# Altium schematic symbol library EReference-Schematic.SchLib: 84 symbols (part 3 of 3)
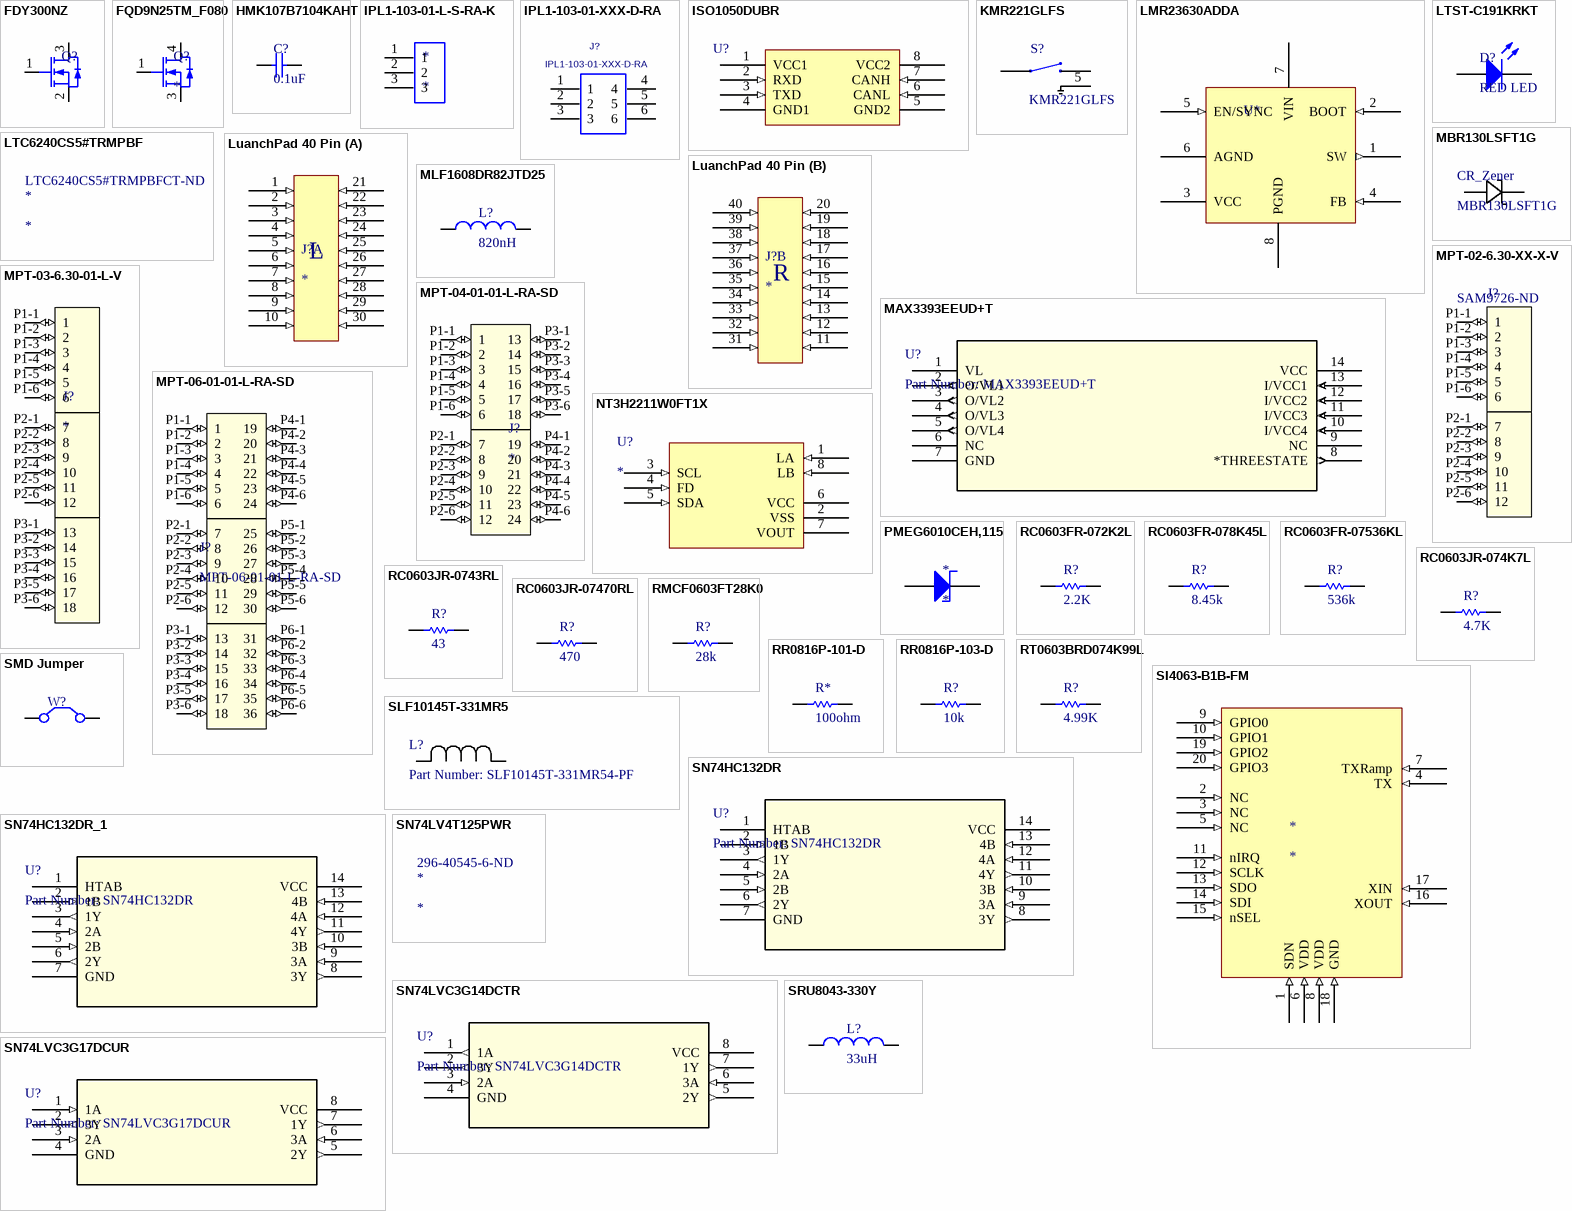
[diagram p4: symbols FDY300NZ to SRU8043-330Y]

## RMCF0603FT28K0
designator R?, comment 28k
RES SMD 28K OHM 1% 1/10W 0603; Manufacturer 1: Stackpole Electronics; Manufacturer Part Number 1: RMCF0603FT28K0; Resistance: 28kR; Power Rating: 100mW; Temperature Coefficient: 100ppm/°C; Supplier 1: Digi-Key; Stock 1: 126187; Pricing 1: 1=0.10000, 10=0.01700, 100=0.00680, 1000=0.00306, 2500=0.00266 (USD); RoHS: Yes; Mount: Surface Mount; Case/Package: 0603; Case Code (Metric): 1608; Case Code (Imperial): 0603; Contact Plating: Tin,Matte; Min Operating Temperature: -55°C; Max Operating Temperature: 155°C; Tolerance: 1%; Packaging: Tape and Reel; Composition: Thick Film; Number of Terminations: 2; Max Power Dissipation: 100mW; Features: Automotive AEC-Q200; Length: 0.061inch; Height: 0.022inch; Width: 0.031inch; Radiation Hardening: No; Lead Free: Lead Free; ComponentLink1URL: https://www.seielect.com/Catalog/SEI-RMCF_RMCP.pdf?src-supplier=Digi-Key; ComponentLink1Description: https://www.seielect.com/Catalog/SEI-RMCF_RMCP.pdf?src-supplier=Digi-Key; ComponentLink2URL: https://www.seielect.com/catalog/SEI-Packaging.pdf?src-supplier=Digi-Key; ComponentLink2Description: https://www.seielect.com/catalog/SEI-Packaging.pdf?src-supplier=Digi-Key; ComponentLink3URL: http://components.arrow.com/part/dataview/50505137S2698N1174?src-supplier=Arrow; ComponentLink3Description: http://components.arrow.com/part/dataview/50505137S2698N1174?src-supplier=Arrow; ComponentLink4URL: https://www.seielect.com/catalog/SEI-RMCF_RMCP.pdf?src-supplier=Avnet; ComponentLink4Description: https://www.seielect.com/catalog/SEI-RMCF_RMCP.pdf?src-supplier=Avnet; ComponentLink5URL: http://www.seielect.com/Catalog/SEI-RMC.pdf?src-supplier=Future+Electronics; ComponentLink5Description: http://www.seielect.com/Catalog/SEI-RMC.pdf?src-supplier=Future+Electronics
footprint CAPC1608X05L (Chip Capacitor, 2-Leads, Body 1.60x0.80mm, IPC High Density)
pins: 1, 2

## RR0816P-101-D
designator R*, comment 100ohm
RES SMD 100 OHM 0.5% 1/16W 0816; Manufacturer: Susumu; Manufacturer Part Number: RR0816P-101-D; Resistance: 100R; Power Rating: 63mW; Voltage Rating: 75V; Temperature Coefficient: 25ppm/°C; Supplier 1: Digi-Key; RoHS: Yes; Stock 1: 167672; Pricing 1: 1 = 0.11000, 10 = 0.09800, 100 = 0.03760, 1000 = 0.01654, 2500 = 0.01428 (USD); Case/Package: 0603; Number of Pins: 2; Weight: 7.1E-05oz; Case Code (Metric): 1608; Case Code (Imperial): 0603; Min Operating Temperature: -55°C; Max Operating Temperature: 125°C; Package Quantity: 1; Tolerance: 0.5%; Packaging: Cut Tape; Composition: Thin Film; Number of Terminations: 2; Termination: SMD/SMT; Max Power Dissipation: 63mW; Voltage Rating (DC): 75V; Length: 1.6mm; Height: 0.4mm; Width: 0.031inch; Depth: 0.8mm; REACH SVHC: Unknown; Lead Free: Lead Free; ComponentLink1URL: http://www.susumu.co.jp/common/pdf/n_catalog_partition05_en.pdf; ComponentLink1Description: http://www.susumu.co.jp/common/pdf/n_catalog_partition05_en.pdf; ComponentLink2URL: http://documents.rs-components.com/techlib://itc_doclist_GB.htm?stockno=3915191; ComponentLink2Description: http://documents.rs-components.com/techlib://itc_doclist_GB.htm?stockno=3915191
footprint CAPC1608X05L (Chip Capacitor, 2-Leads, Body 1.60x0.80mm, IPC High Density)
simulation model Model Name (Model Description)
pins: 1, 2

## RR0816P-103-D
designator R?, comment 10k
RES SMD 10K OHM 0.5% 1/16W 0816; Manufacturer: Susumu; Manufacturer Part Number: RR0816P-103-D; Resistance: 10kR; Power Rating: 63mW; Voltage Rating: 75V; Temperature Coefficient: 25ppm/°C; Supplier 1: Digi-Key; Stock 1: 1031099; Pricing 1: 1=0.11, 10=0.098, 100=0.0376, 1000=0.01654, 2500=0.01428 (USD); Case/Package: 0603; Number of Pins: 2; Weight: 7.1E-05oz; Case Code (Imperial): 0603; Case Code (Metric): 1608; Min Operating Temperature: -55°C; Max Operating Temperature: 125°C; Packaging: Tape and Reel; Tolerance: 0.5%; Package Quantity: 1; Termination: SMD/SMT; Composition: Thin Film; Number of Terminations: 2; Max Power Dissipation: 63mW; Voltage Rating (DC): 75V; Length: 1.6mm; Height: 0.4mm; Width: 0.8mm; Depth: 0.8mm; REACH SVHC: Unknown; Lead Free: Lead Free; ComponentLink1URL: http://documents.rs-components.com/techlib://itc_doclist_GB.htm?stockno=3915321; ComponentLink1Description: http://documents.rs-components.com/techlib://itc_doclist_GB.htm?stockno=3915321; ComponentLink2URL: http://www.susumu.co.jp/common/pdf/n_catalog_partition05_en.pdf; ComponentLink2Description: http://www.susumu.co.jp/common/pdf/n_catalog_partition05_en.pdf
simulation model Model Name (Model Description)
signal-integrity model Model Name (Model Description)
footprint CAPC1608X05L (Chip Capacitor, 2-Leads, Body 1.60x0.80mm, IPC High Density)
pins: 1, 2

## RT0603BRD074K99L
designator R?, comment 4.99K
RES SMD 4.99K OHM 0.1% 1/10W; Manufacturer 1: Yageo; Manufacturer Part Number 1: RT0603BRD074K99L; Resistance: 4.99kR; Temperature Coefficient: 25ppm/°C; Power Rating: 100mW; Voltage Rating: 75V; Voltage Rating (DC): 50V; Supplier 1: Digi-Key; Stock 1: 53078; Pricing 1: 1=0.37000, 10=0.31200, 100=0.12190, 1000=0.05103, 2500=0.04678 (USD); RoHS: Yes; Case/Package: 0603; Weight: 7.1E-05oz; Contact Plating: Tin,Matte; Case Code (Metric): 1608; Case Code (Imperial): 0603; Min Operating Temperature: -55°C; Max Operating Temperature: 125°C; Tolerance: 0.1%; Composition: Thin Film; Package Quantity: 5000; Packaging: Tape and Reel; Number of Terminations: 2; Termination: SMD/SMT; Military Standard: Not; Max Power Dissipation: 100mW; Features: Moisture Resistant; Length: 1.6mm; Height: 0.022inch; Width: 0.031inch; Depth: 0.8mm; Radiation Hardening: No; Lead Free: Lead Free; ComponentLink1URL: https://datasheet.ciiva.com/2585/pyu-rt-1-to-0-05-rohs-l-4-2585984.pdf?src-supplier=Digi-Key; ComponentLink1Description: https://datasheet.ciiva.com/2585/pyu-rt-1-to-0-05-rohs-l-4-2585984.pdf?src-supplier=Digi-Key; ComponentLink2URL: https://datasheet.ciiva.com/46635/pyu-rt-1-to-0-05-rohs-l-5-46635030.pdf?src-supplier=Digi-Key; ComponentLink2Description: https://datasheet.ciiva.com/46635/pyu-rt-1-to-0-05-rohs-l-5-46635030.pdf?src-supplier=Digi-Key; ComponentLink3URL: https://datasheet.ciiva.com/12836/pyu-rt-1-to-0-05-rohs-l-4-12836462.pdf?src-supplier=Mouser; ComponentLink3Description: https://datasheet.ciiva.com/12836/pyu-rt-1-to-0-05-rohs-l-4-12836462.pdf?src-supplier=Mouser
footprint CAPC1608X05L (Chip Capacitor, 2-Leads, Body 1.60x0.80mm, IPC High Density)
pins: 1, 2

## SI4063-B1B-FM
designator *
+20DBM SI4063 EZRADIOPRO. TRAN; Manufacturer 1: Silicon Labs; Manufacturer Part Number 1: SI4063-B1B-FM; Frequency: 142MHz; Operating Supply Voltage: 3.3V; Current - Transmitting: 85mA; Data Rate: 1Mbps; Max Frequency: 1.05GHz; Min Supply Voltage: 1.8V; Max Supply Voltage: 3.6V; Supplier 1: Digi-Key; Stock 1: 447; Pricing 1: 1=2.21000, 25=2.12720, 100=2.04530, 1000=1.87582 (USD); RoHS: Yes; Mount: Surface Mount; Case/Package: QFN; Number of Pins: 20; Min Operating Temperature: -40°C; Max Operating Temperature: 85°C; Package Quantity: 75; Packaging: Rail/Tube; Length: 4mm; Height: 0.85mm; Width: 4mm; REACH SVHC: Unknown; ComponentLink1URL: https://datasheet.ciiva.com/8145/si4063-60-8145942.pdf?src-supplier=Avnet; ComponentLink1Description: https://datasheet.ciiva.com/8145/si4063-60-8145942.pdf?src-supplier=Avnet; ComponentLink2URL: https://datasheet.ciiva.com/14939/wirelessselectorguide-14939879.pdf?src-supplier=Digi-Key; ComponentLink2Description: https://datasheet.ciiva.com/14939/wirelessselectorguide-14939879.pdf?src-supplier=Digi-Key; Supplier 2: Digi-Key; Manufacturer 2: Silicon Labs; Manufacturer Part Number 2: SI4063-B1B-FM; Stock 2: 447; Pricing 2: 1=2.21000, 25=2.12720, 100=2.04530, 1000=1.87582 (USD)
footprint QFN50P400X400X90_HS-21N (QFN, 20-Leads, Body 4.00x4.00mm, Pitch 0.50mm, Thermal Pad 2.60x2.60mm, IPC Medium Density); pin to pad 18>18+21
pins: 1 SDN (in), 2 NC (in), 3 NC (in), 4 TX (in), 5 NC (in), 6 VDD (in), 7 TXRamp (in), 8 VDD (in), 9 GPIO0 (in), 10 GPIO1 (in), 11 nIRQ (in), 12 SCLK (in), 13 SDO (in), 14 SDI (in), 15 nSEL (in), 16 XOUT (in), 17 XIN (in), 18 GND (in), 19 GPIO2 (in), 20 GPIO3 (in)

## SLF10145T-331MR5
designator L?, comment Part Number: SLF10145T-331MR54-PF
330uH inductor for 5v reg; Vendor: TDK; Built_By: EMA_UL_Team; Manufacturer_Part_Number: SLF10145T-331MR54-PF; Copyright: Copyright (C) 2018 Accelerated Designs. All rights reserved; Value: Value
footprint IND_10145
pins: 1, 2

## SMD Jumper
designator W?
SMD solder jumper
footprint SMD Jumper (To be used only as a jumper)
pins: 1 C1, 2 C2

## SN74HC132DR
designator U?, comment Part Number: SN74HC132DR
Schmitt Trigger; Vendor: Texas Instruments; Built_By: EMA_UL_Team; Manufacturer_Part_Number: SN74HC132DR; Manufacturer: Texas Instruments; Copyright: Copyright (C) 2018 Accelerated Designs. All rights reserved; RefDes: RefDes; Type: DEV; Value: Value
footprint D14
pins: 1 HTAB (power), 2 1B (in), 3 1Y (out), 4 2A (in), 5 2B (in), 6 2Y (out), 7 GND (power), 8 3Y (out), 9 3A (in), 10 3B (in), 11 4Y (out), 12 4A (in), 13 4B (in), 14 VCC (power)

## SN74HC132DR_1
designator U?, comment Part Number: SN74HC132DR
No Description Available; Vendor: Texas Instruments; Built_By: EMA_UL_Team; Manufacturer_Part_Number: SN74HC132DR; Manufacturer: Texas Instruments; Copyright: Copyright (C) 2018 Accelerated Designs. All rights reserved; RefDes: RefDes; Type: DEV; Value: Value
footprint D14
pins: 1 HTAB (power), 2 1B (in), 3 1Y (out), 4 2A (in), 5 2B (in), 6 2Y (out), 7 GND (power), 8 3Y (out), 9 3A (in), 10 3B (in), 11 4Y (out), 12 4A (in), 13 4B (in), 14 VCC (power)

## SN74LV4T125PWR
designator *  Supplier Part Number 1: 296-40545-6-ND
level shifter Automotive 14-Pin TSSOP T/R; Manufacturer 1: Texas Instruments; Manufacturer Part Number 1: SN74LV4T125PWR; Number of Elements: 4; Number of Bits per Element: 1; High Level Output Current: 16mA; Quiescent Current: 2uA; Logic Function: Buffer,Inverting,Translator; Propagation Delay: 11ns; Min Supply Voltage: 1.6V; Max Supply Voltage: 5.5V; Supplier 1: Digi-Key; Stock 1: 13202; Pricing 1: 1=0.90000, 10=0.80200, 25=0.76120, 100=0.58460, 250=0.51664, 500=0.48946, 1000=0.38069 (USD); RoHS: Yes; Mount: Surface Mount; Case/Package: TSSOP; Number of Pins: 14; Min Operating Temperature: -40°C; Max Operating Temperature: 125°C; Packaging: Tape and Reel; Low Level Output Current: 16mA; Number of Inputs: 1; Package Quantity: 2000; Number of Bits: 4; Radiation Hardening: No; REACH SVHC: No SVHC; Lead Free: Lead Free; ComponentLink1URL: https://datasheet.ciiva.com/48438/sn74lv4t125-48438268.pdf?src-supplier=Avnet; ComponentLink1Description: https://datasheet.ciiva.com/48438/sn74lv4t125-48438268.pdf?src-supplier=Avnet
footprint PW0014A_N (SOP, 14-Leads, Body 5.1x4.5mm, Pitch 0.65mm, IPC Medium Density)

## SN74LVC3G14DCTR
designator U?, comment Part Number: SN74LVC3G14DCTR
No Description Available; Manufacturer: Texas Instruments; Built_By: EMA_UL_Team; Vendor: Texas Instruments; Manufacturer_Part_Number: SN74LVC3G14DCTR; Copyright: Copyright (C) 2018 Accelerated Designs. All rights reserved; RefDes: RefDes; Type: DEV; Value: Value
footprint DCT8
pins: 1 1A (out), 2 3Y (out), 3 2A (in), 4 GND (power), 5 2Y (out), 6 3A (in), 7 1Y (out), 8 VCC (power)

## SN74LVC3G17DCUR
designator U?, comment Part Number: SN74LVC3G17DCUR
Schmitt Triger Non Inverting; Vendor: Texas Instruments; Built_By: EMA_UL_Team; Manufacturer_Part_Number: SN74LVC3G17DCUR; Manufacturer: Texas Instruments; Copyright: Copyright (C) 2018 Accelerated Designs. All rights reserved; RefDes: RefDes; Type: DEV; Value: Value
footprint DCU8
pins: 1 1A (in), 2 3Y (out), 3 2A (in), 4 GND (power), 5 2Y (out), 6 3A (in), 7 1Y (out), 8 VCC (power)

## SRU8043-330Y
designator L?, comment 33uH
Fixed Inductors 33uH 30% SMD 8043; Manufacturer 1: Bourns; Manufacturer Part Number 1: SRU8043-330Y; Core Material: Ferrite; DC Resistance (DCR): 100mR; Max DC Current: 1.7A; Saturation Current: 1.4A; Shielding: Shielded; Self Resonant Frequency: 11MHz; Q Factor: 21; Test Frequency: 100kHz; Supplier 1: Digi-Key; Stock 1: 3183; Pricing 1: 1=0.97000, 10=0.89700, 100=0.64860, 500=0.49680 (USD); RoHS: Yes; Mount: Surface Mount; Case/Package: Nonstandard; Number of Pins: 2; Min Operating Temperature: -40°C; Max Operating Temperature: 125°C; Tolerance: 30%; Inductance: 33uH; Packaging: Tape and Reel; Package Quantity: 1000; Current Rating: 1.7A; Composition: Wirewound; Termination: SMD/SMT; DC Current: 1.7A; Military Standard: Not; Length: 0.315inch; Height: 0.169inch; Width: 0.315inch; Height - Seated (Max): 0.181inch; Depth: 8.3mm; ComponentLink1URL: https://datasheet.ciiva.com/4959/sru8043-34397-4959893.pdf?src-supplier=Mouser; ComponentLink1Description: https://datasheet.ciiva.com/4959/sru8043-34397-4959893.pdf?src-supplier=Mouser; ComponentLink2URL: https://datasheet.ciiva.com/6708/sru8043-6708554.pdf?src-supplier=Digi-Key; ComponentLink2Description: https://datasheet.ciiva.com/6708/sru8043-6708554.pdf?src-supplier=Digi-Key; ComponentLink3URL: https://datasheet.ciiva.com/48684/sru8043-48684874.pdf?src-supplier=Avnet; ComponentLink3Description: https://datasheet.ciiva.com/48684/sru8043-48684874.pdf?src-supplier=Avnet; ComponentLink4URL: https://datasheet.ciiva.com/41680/70887-41680748.pdf?src-supplier=Newark; ComponentLink4Description: https://datasheet.ciiva.com/41680/70887-41680748.pdf?src-supplier=Newark
footprint INDP8080X46L (Precision Wire Wound Inductor, 2-Leads, Body 8.00x8.00mm, IPC High Density)
pins: 1, 2

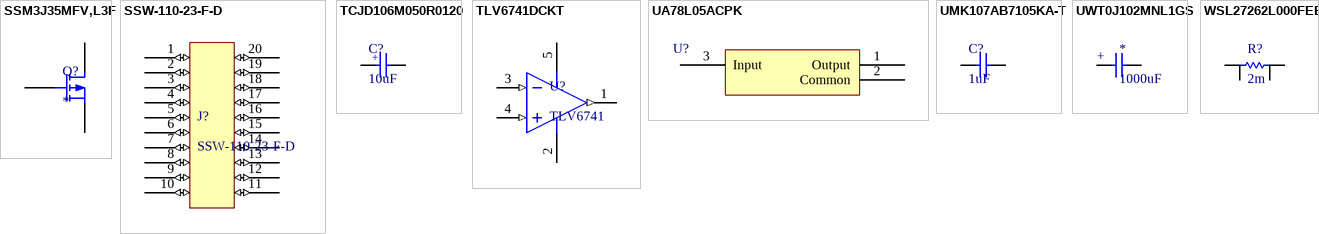
[diagram p2: symbols SSM3J35MFV,L3F to WSL27262L000FEB]

## SSM3J35MFV,L3F
designator Q?
MOSFET P-CH 20V 0.1A VESM; Manufacturer: Toshiba; Manufacturer Part Number: SSM3J35MFV,L3F; Continuous Drain Current (ID): 100mA; Rds On Max: 8R; Input Capacitance: 12.2pF; Max Power Dissipation: 150mW; Supplier 1: Digi-Key; Stock 1: 6222; Pricing 1: 1=0.26, 10=0.241, 100=0.1348, 500=0.07222, 1000=0.04912 (USD); Mount: Surface Mount; Case/Package: SOT-723; Packaging: Cut Tape; Drain to Source Voltage (Vdss): 20V
footprint SOTFL40P120X55-3N (SOTFL, 3-Leads, Body 1.20x1.20mm, Pitch 0.40mm, IPC Medium Density)
pins: 1 G, 2 S, 3 D

## SSW-110-23-F-D
designator J?
SSW - Samtec 2.54mm Dual Row Straight Socket Strip 8.5mm Profile; Number of Contacts: 20; Gender: Female; Mating Cycles: 100; Supplier 1: Digi-Key; Manufacturer 1: Samtec; Manufacturer Part Number 1: SSW-110-23-F-D; Stock 1: 137; Pricing 1: 1=2.57000, 10=2.33000, 100=1.99710, 500=1.66426, 1000=1.42650, 5000=1.26483 (USD); RoHS: Yes; Mount: Through Hole; Contact Plating: Gold; Color: Black; Contact Material: Bronze; Number of Rows: 2; Packaging: Bulk; Termination: Solder; Pitch: 2.54mm; Radiation Hardening: No; ComponentLink1URL: ftp://ftp.samtec.com/webfiles/PDF/SSQ_TH.PDF?src-supplier=Avnet; ComponentLink1Description: ftp://ftp.samtec.com/webfiles/PDF/SSQ_TH.PDF?src-supplier=Avnet
footprint SSW-110-XX-XXX-D
pins: 1 (io), 2 (io), 3 (io), 4 (io), 5 (io), 6 (io), 7 (io), 8 (io), 9 (io), 10 (io), 11 (io), 12 (io), 13 (io), 14 (io), 15 (io), 16 (io), 17 (io), 18 (io), 19 (io), 20 (io)

## TCJD106M050R0120
designator C?, comment 10uF
CAP TANT POLY 10UF 50V 2917; Manufacturer 1: Kyocera AVX; Manufacturer Part Number 1: TCJD106M050R0120; Tolerance: 20%; ESR (Equivalent Series Resistance): 120mR; Leakage Current: 50uA; Polarity: Polar; Dissipation Factor: 10%; Lead Diameter: 2.4mm; Supplier 1: Digi-Key; Stock 1: 6753; Pricing 1: 1=2.00000, 10=1.61900, 100=1.23650 (USD); RoHS: Yes; Mount: Surface Mount; Case/Package: 2917; Case Code (Metric): 7343; Case Code (Imperial): 2917; Min Operating Temperature: -55°C; Max Operating Temperature: 105°C; Capacitance: 10uF; Voltage Rating: 50V; Packaging: Tape and Reel; Package Quantity: 1; Voltage Rating (DC): 50V; Termination: SMD/SMT; Voltage: 50V; Length: 7.3mm; Height: 2.9mm; Depth: 4.3mm; Lead Pitch: 4.4mm; Width: 4.3mm; Height - Seated (Max): 0.122inch; Radiation Hardening: No; REACH SVHC: No SVHC; Lead Free: Lead Free; ComponentLink1URL: https://datasheet.ciiva.com/11793/0900766b80eff593-11793026.pdf?src-supplier=RSComponents; ComponentLink1Description: https://datasheet.ciiva.com/11793/0900766b80eff593-11793026.pdf?src-supplier=RSComponents; ComponentLink2URL: https://datasheet.ciiva.com/265/tcj-265446.pdf?src-supplier=Digi-Key; ComponentLink2Description: https://datasheet.ciiva.com/265/tcj-265446.pdf?src-supplier=Digi-Key; ComponentLink3URL: https://datasheet.ciiva.com/265/tcj-265447.pdf?src-supplier=Digi-Key; ComponentLink3Description: https://datasheet.ciiva.com/265/tcj-265447.pdf?src-supplier=Digi-Key; ComponentLink4URL: https://datasheet.ciiva.com/265/tcj-265448.pdf?src-supplier=Digi-Key; ComponentLink4Description: https://datasheet.ciiva.com/265/tcj-265448.pdf?src-supplier=Digi-Key; ComponentLink5URL: https://datasheet.ciiva.com/17340/tcj-17340331.pdf?src-supplier=Avnet+Europe; ComponentLink5Description: https://datasheet.ciiva.com/17340/tcj-17340331.pdf?src-supplier=Avnet+Europe
footprint CAPCP7343X40N (Chip Capacitor, 2-Leads, Body 7.30x4.30mm, IPC Medium Density)
pins: 1, 2
text: +

## TLV6741DCKT
designator U?, comment TLV6741
Ti Opamp Rail to Rail CMos; Manufacturer 1: Texas Instruments; Manufacturer Part Number 1: TLV6741DCKT; Number of Channels: 1; Supplier 1: Digi-Key; Stock 1: 2613; Pricing 1: 1=0.87000, 10=0.77500, 100=0.60410 (USD); RoHS: No; Min Operating Temperature: -40°C; Max Operating Temperature: 125°C; Supplier 2: Digi-Key; Manufacturer 2: Texas Instruments; Manufacturer Part Number 2: TLV6741DCKR; Stock 2: 8541; Pricing 2: 1=0.86000, 10=0.75500, 100=0.57850, 500=0.45732, 1000=0.36586 (USD); ComponentLink1URL: http://www.ti.com/lit/ds/symlink/tlv6741.pdf?src-supplier=Digi-Key; ComponentLink1Description: http://www.ti.com/lit/ds/symlink/tlv6741.pdf?src-supplier=Digi-Key
footprint SOT65P210X110-5N - TLV6741 (SOT23, 5-Leads, Body 2.00x2.10mm, Pitch 0.65mm, IPC Medium Density)
pins: 1 OUT (out), 2 V- (power), 3 IN- (in), 4 IN+ (in), 5 V+ (power)

## UA78L05ACPK
designator U?
IC REG LDO 5V 0.1A SOT89-3; Manufacturer: Texas Instruments; Manufacturer Part Number: UA78L05ACPK; Output Current: 100mA; Min Input Voltage: 7V; Max Input Voltage: 20V; Output Type: Fixed; Dropout Voltage: 1.7V; Number of Outputs: 1; Polarity: Positive; Output Voltage Accuracy: 5%; Power Supply Rejection Ratio (PSRR): 49dB; Quiescent Current: 3.8mA; Supplier 1: Digi-Key; Stock 1: 60188; Pricing 1: 1=0.4, 10=0.34, 100=0.2538, 500=0.1994 (USD); Mount: Surface Mount; Case/Package: SOT-89; Number of Pins: 3; Weight: 0.004603oz; Contact Plating: Matte,Tin; Min Operating Temperature: -40°C; Max Operating Temperature: 125°C; Nominal Output Voltage: 5V; Packaging: Tape and Reel; Output Voltage: 5V; Package Quantity: 1; Max Output Current: 100mA; Number of Regulators: 1; Accuracy: 5%; Radiation Hardening: No; REACH SVHC: No SVHC; Lead Free: Lead Free; ComponentLink1URL: https://www.verical.com/server-webapp/html/getDatasheet?partID=40762; ComponentLink1Description: https://www.verical.com/server-webapp/html/getDatasheet?partID=40762; ComponentLink2URL: http://www.ti.com/lit/ds/symlink/ua78l.pdf; ComponentLink2Description: http://www.ti.com/lit/ds/symlink/ua78l.pdf; ComponentLink3URL: http://focus.ti.com/lit/ds/symlink/ua78l12a.pdf; ComponentLink3Description: http://focus.ti.com/lit/ds/symlink/ua78l12a.pdf; ComponentLink4URL: http://www.ti.com/general/docs/lit/getliterature.tsp?genericPartNumber=UA78L05&&fileType=pdf; ComponentLink4Description: http://www.ti.com/general/docs/lit/getliterature.tsp?genericPartNumber=UA78L05&&fileType=pdf; ComponentLink5URL: http://www.jameco.com/Jameco/Products/ProdDS/764220.pdf; ComponentLink5Description: http://www.jameco.com/Jameco/Products/ProdDS/764220.pdf; ComponentLink6URL: http://www.farnell.com/datasheets/1848990.pdf; ComponentLink6Description: http://www.farnell.com/datasheets/1848990.pdf
footprint SOT89-150P410X160-3N (SOT89, 3-Leads, Body 4.50x2.50mm, Pitch 1.50mm, Lead Span 4.1mm, IPC Medium Density)
pins: 1 Output (power), 2 Common (power), 3 Input (power)

## UMK107AB7105KA-T
designator C?, comment 1uF
CAP CER 1UF 50V X7R 0603; Manufacturer: Taiyo Yuden; Manufacturer Part Number: GMK107AB7105MAHT; Tolerance: 10%; Supplier 1: Digi-Key; Stock 1: 1780; Pricing 1: 1=0.29, 10=0.201, 100=0.1017, 500=0.0696, 1000=0.06158 (USD); Supplier 2: Digi-Key; Stock 2: 4000; Pricing 2: 1=0.29, 10=0.198, 100=0.1124, 500=0.07936, 1000=0.06943 (USD); Mount: Surface Mount; Case/Package: 0603; Case Code (Metric): 1608; Case Code (Imperial): 0603; Min Operating Temperature: -55°C; Max Operating Temperature: 125°C; Capacitance: 1uF; Packaging: Tape and Reel; Package Quantity: 1; Voltage Rating: 50V; Voltage Rating (DC): 50V; Dielectric: X7R; Termination: SMD/SMT; Length: 1.6mm; Height: 0.8mm; Width: 0.031inch; Thickness: 0.037inch; Depth: 0.8mm; Radiation Hardening: No; Halogen Free: Halogen Free; ComponentLink1URL: https://www.yuden.co.jp/productdata/catalog/mlcc_all_e.pdf; ComponentLink1Description: https://www.yuden.co.jp/productdata/catalog/mlcc_all_e.pdf
footprint CAPC1608X05L (Chip Capacitor, 2-Leads, Body 1.60x0.80mm, IPC High Density)
simulation model Model Name (Model Description)
signal-integrity model Model Name (Model Description)
pins: 1, 2

## UWT0J102MNL1GS
designator *, comment 1000uF
CAP ALUM 1000UF 6.3V 20% SMD; Manufacturer: Nichicon; Manufacturer Part Number: UWT0J102MNL1GS; Dielectric Material: Aluminium; Capacitance: 1mF; Ripple Current: 230mA; Leakage Current: 3uA; Life (Hours): 1000Hour; Dissipation Factor: 0.3%; Lead Diameter: 1.1mm; Supplier 1: Digi-Key; Stock 1: 72164; Pricing 1: 1=0.53, 10=0.374, 100=0.2465 (USD); Mount: Surface Mount; Case/Package: Radial; Number of Pins: 2; Min Operating Temperature: -55°C; Max Operating Temperature: 105°C; Tolerance: 20%; Voltage Rating: 6.3V; Packaging: Tape and Reel; Ripple Current (AC): 230mA; Package Quantity: 500; Voltage Rating (DC): 6.3V; Termination: SMD/SMT; Voltage: 6.3V; Features: General Purpose; Diameter: 8mm; Length: 10mm; Height: 10mm; Lead Pitch: 3.1mm; Height - Seated (Max): 0.315inch; Radiation Hardening: No; REACH SVHC: No SVHC; Lead Free: Lead Free; ComponentLink1URL: http://www.nichicon.co.jp/english/products/pdfs/e-ch_ref.pdf; ComponentLink1Description: http://www.nichicon.co.jp/english/products/pdfs/e-ch_ref.pdf; ComponentLink2URL: http://uk.rs-online.com/webdocs/0fa3/0900766b80fa3a91.pdf; ComponentLink2Description: http://uk.rs-online.com/webdocs/0fa3/0900766b80fa3a91.pdf; ComponentLink3URL: http://nichicon-us.com/english/products/pdfs/e-uwt.pdf; ComponentLink3Description: http://nichicon-us.com/english/products/pdfs/e-uwt.pdf; ComponentLink4URL: http://products.nichicon.co.jp/en/pdf/XJA043/e-wt.pdf; ComponentLink4Description: http://products.nichicon.co.jp/en/pdf/XJA043/e-wt.pdf; ComponentLink5URL: http://www.farnell.com/datasheets/1910938.pdf; ComponentLink5Description: http://www.farnell.com/datasheets/1910938.pdf; ComponentLink6URL: http://nichicon-us.com/english/products/pdfs/e-wt.pdf; ComponentLink6Description: http://nichicon-us.com/english/products/pdfs/e-wt.pdf
footprint CAPAE109103X100N (Aluminum Electrolytic Capacitor, Body 10.30x10.30x10.00mm, IPC Medium Density)
simulation model Model Name (Model Description)
signal-integrity model Model Name (Model Description)
pins: 1, 2
text: +

## WSL27262L000FEB
designator R?, comment 2m
RES SMD 2 MOHM 1% 3W 2726; Manufacturer 1: Vishay Dale; Manufacturer Part Number 1: WSL27262L000FEB; Resistance: 2mR; Temperature Coefficient: 75ppm/°C; Supplier 1: Digi-Key; Stock 1: 5164; Pricing 1: 1=2.51000, 10=2.22300, 25=2.06160, 50=1.94040, 100=1.69790, 250=1.45532, 500=1.21276 (USD); RoHS: Yes; Case/Package: 2726; Case Code (Imperial): 2726; Case Code (Metric): 6966; Min Operating Temperature: -65°C; Max Operating Temperature: 170°C; Packaging: Tape and Reel; Power Rating: 3W; Tolerance: 1%; Package Quantity: 1000; Termination: SMD/SMT; Composition: Metal Strip; Length: 6.9mm; Height: 3mm; Width: 6.6mm; ComponentLink1URL: http://www.mouser.com/ds/2/427/wsl2726-88189.pdf?src-supplier=Mouser; ComponentLink1Description: http://www.mouser.com/ds/2/427/wsl2726-88189.pdf?src-supplier=Mouser; ComponentLink2URL: https://media.digikey.com/pdf/Data%20Sheets/Vishay%20Dale%20PDFs/WSL_C_N_F_H_R_Series_EB_Pkg.pdf?src-supplier=Digi-Key; ComponentLink2Description: https://media.digikey.com/pdf/Data%20Sheets/Vishay%20Dale%20PDFs/WSL_C_N_F_H_R_Series_EB_Pkg.pdf?src-supplier=Digi-Key; ComponentLink3URL: http://www.vishay.com/docs/30131/wsl2726.pdf?src-supplier=Digi-Key; ComponentLink3Description: http://www.vishay.com/docs/30131/wsl2726.pdf?src-supplier=Digi-Key
footprint WSL27262L000FEB (Precision current sense resistor)
pins: 1, 2, 3, 4